# EAGLE library part PINS_ARDUINO_PWR (library arduino)
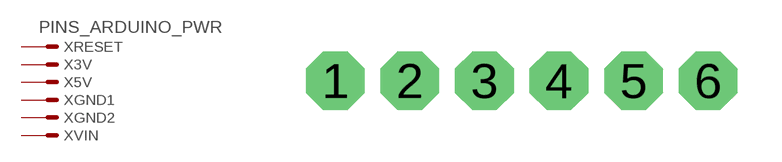
[diagram p1: symbol with the pads of 6PIN; footprint 6PIN]

Designator prefix X; gates RESET=MV 5V=M 3V=M GND1=M GND2=M VIN=M

## PINS_ARDUINO_PWR1  [6PIN]
1  RESET:S  pas
2  3V:S  pas
3  5V:S  pas
4  GND1:S  pas
5  GND2:S  pas
6  VIN:S  pas

## Footprint 6PIN (pad centres in mm)
CONNECTOR series 057 contact pc board low profile headers straight
drill 1 pad 2 octagon: 1 -6.35,-1.27; 2 -3.81,-1.27; 3 -1.27,-1.27; 4 1.27,-1.27; 5 3.81,-1.27; 6 6.35,-1.27